# Altium schematic symbol library SCH - SSR - COTO CS128TR.SchLib: 1 symbol
Pins are listed as number, name and electrical type; pins without a type are passive.

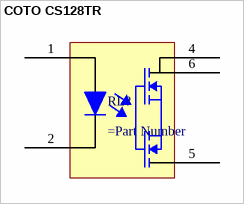
[diagram p0: symbol COTO CS128TR]

## COTO CS128TR
designator RL?
pins: 1, 2, 4, 5, 6